# EAGLE library part AP63300WU-7 (library ICs)
Buck Switching Regulator IC Positive Adjustable 0.8V 1 Output 3A SOT-23-6 Thin, TSOT-23-6
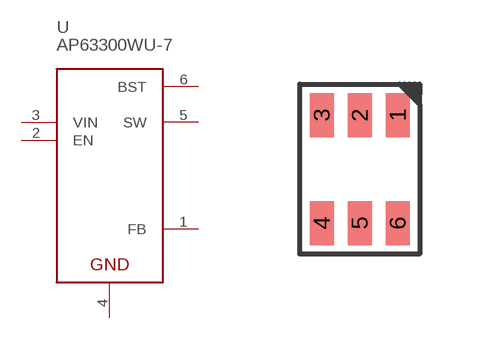
[diagram p304: symbol with the pads of SOT23-6; footprint SOT23-6]

Designator prefix U

## AP63300WU-7 (DIGIKEY: 31-AP63300WU-7CT-ND; HEIGHT: 1; PRICE_PER: 0.84; VALUE: AP63300WU-7)  [SOT23-6]
1  FB
2  EN
3  VIN
4  GND
5  SW
6  BST

## Footprint SOT23-6 (pad centres in mm)
smd 0.6 x 1.1: 1 0.95,1.35; 2 0,1.35; 3 -0.95,1.35; 4 -0.95,-1.35; 5 0,-1.35; 6 0.95,-1.35